# EAGLE library part THN_15-1211 (library THN_15-1211)
TRACOPOWER Isolated DC-DC Converter, Vin 9 18 V dc, Vout 5V dc, I/O isolation 1500V dc Source: Datasheet <http://uk.rs-online.com/web/p/products/0438272P>
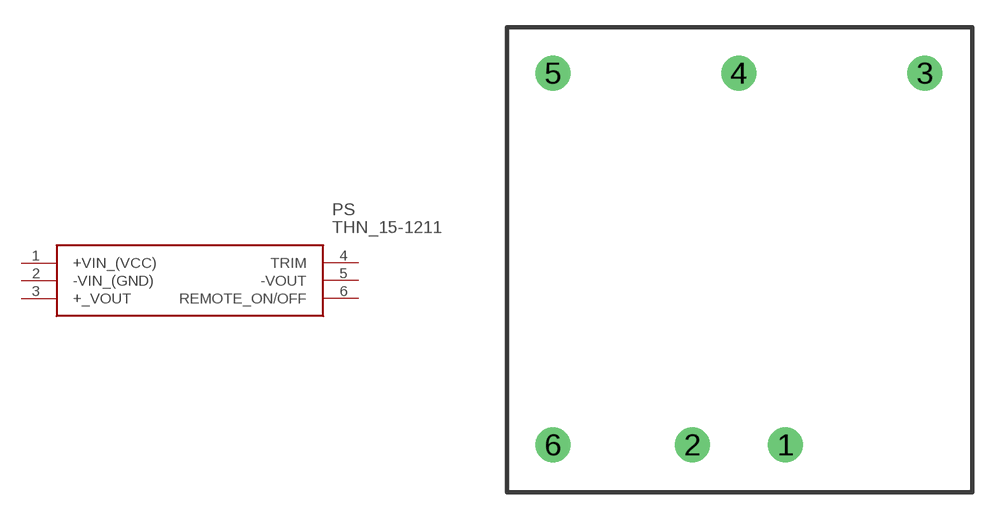
[diagram p0: symbol with the pads of THN-15-SERIES; footprint THN-15-SERIES]

Designator prefix PS

## THN_15-1211 (Description: TRACOPOWER Isolated DC-DC Converter, Vin 9 18 V dc, Vout 5V dc, I/O isolation 1500V dc; Height: mm; Manufacturer_Name: Traco Power; Manufacturer_Part_Number: THN 15-1211; RS_Part_Number: 0438272P)  [THN-15-SERIES]
1  +VIN_(VCC)
2  -VIN_(GND)
3  +_VOUT
4  TRIM
5  -VOUT
6  REMOTE_ON/OFF

## Footprint THN-15-SERIES (pad centres in mm)
THN-15-Series
drill 1.25 pad 1.9: 1 15.2,-22.82; 2 10.12,-22.82; 3 22.82,-2.5; 4 12.66,-2.5; 5 2.5,-2.5; 6 2.5,-22.82